# Altium footprint library Main Board.PcbLib: 22 footprints (part 2 of 2)
Each footprint in its own frame and in the unit in brackets; x right, y up, seen from the top. Pads: shape width x height; smd on the part's side, far side on the other; paste and mask are expansions set on the pad; w line width, h text height; cw(c..) or ccw(c..) is an arc to the next point about the centre after c.
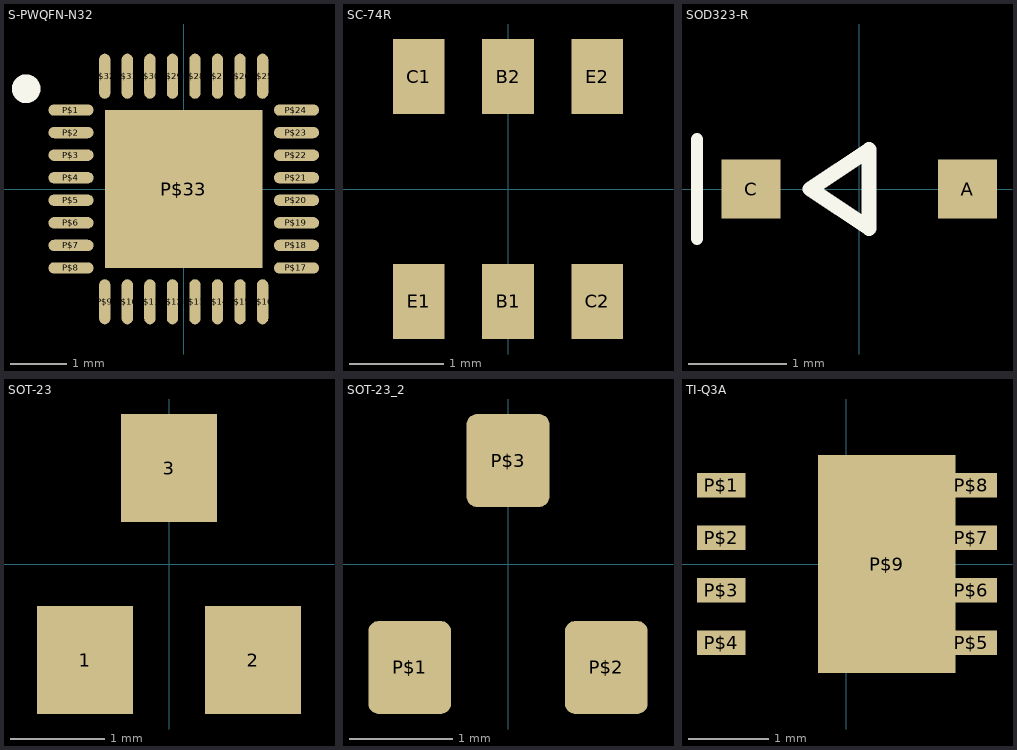
[diagram p1: the footprints below, top view; thin cyan lines are the x and y axes]

## S-PWQFN-N32 [mm] "S-PWQFN-N32"
pads (33):
  rrect100% 0.8x0.2 smd: P$1(-2,1.4) P$2(-2,1) P$3(-2,0.6) P$4(-2,0.2) P$5(-2,-0.2) P$6(-2,-0.6) P$7(-2,-1) P$8(-2,-1.4) P$17(2,-1.4) P$18(2,-1) P$19(2,-0.6) P$20(2,-0.2) P$21(2,0.2) P$22(2,0.6) P$23(2,1) P$24(2,1.4)
  rrect100% 0.2x0.8 smd: P$9(-1.4,-2) P$10(-1,-2) P$11(-0.6,-2) P$12(-0.2,-2) P$13(0.2,-2) P$14(0.6,-2) P$15(1,-2) P$16(1.4,-2) P$25(1.4,2) P$26(1,2) P$27(0.6,2) P$28(0.2,2) P$29(-0.2,2) P$30(-0.6,2) P$31(-1,2) P$32(-1.4,2)
  rect 2.8x2.8 smd: P$33(0,0)
Top Overlay:
  circle w0.254: c-2.794,1.778 r0.127

## SC-74R [mil] "SC-74R"
pads (6):
  rect 21.65x31.5 smd: B1(0,-47.24) B2(0,47.24) C1(-37.4,47.24) C2(37.4,-47.24) E1(-37.4,-47.24) E2(37.4,47.24)

## SOD323-R [mm] "SOD323-R"
pads (2):
  rect 0.6x0.6 smd: A(1.1,0) C(-1.1,0)
Top Overlay:
  lines w0.127: -1.651,-0.508 -1.651,0.508
  lines w0.152: -0.5,0 0.1,0.4 0.1,-0.4 -0.5,0

## SOT-23 [mil] "SOT-23"
pads (3):
  rect 40x45 smd: 1(-35,-40) 2(35,-40) 3(0,40)
Mechanical 3:
  region: -46,-51 -46,-28 -28,-28 -28,-51
  region: 28,-51 28,-28 46,-28 46,-51
  region: -9,28 -9,51 9,51 9,28

## SOT-23_2 [mm]
pads (3):
  rrect25% 0.8x0.9 smd: P$1(-0.95,-1) P$2(0.95,-1) P$3(0,1)

## TI-Q3A [mm] "TI-Q3A"
pads (9):
  rect 0.6x0.3 smd: P$1(-1.55,0.975) P$2(-1.55,0.325) P$3(-1.55,-0.325) P$4(-1.55,-0.975)
  rect 0.635x0.3 smd: P$5(1.55,-0.975) P$6(1.55,-0.325) P$7(1.55,0.325) P$8(1.55,0.975)
  rect 1.7x2.7 smd: P$9(0.5,0)